# Altium schematic symbol library Schlib_LED2.SchLib: 1 symbol
Pins are listed as number, name and electrical type; pins without a type are passive.

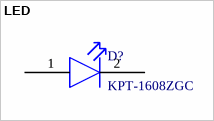
[diagram p0: symbol LED]

## LED
designator D?, comment KPT-1608ZGC
SMD LED Indication - Discrete ROHS /; manufacturer: Kingbright; ComponentLink1Description: datasheet; ComponentLink1URL: https://www.snapeda.com/parts/KPT-1608ZGC/Kingbright/datasheet/; ComponentLink2Description: snapeda link; ComponentLink2URL: https://www.snapeda.com/parts/KPT-1608ZGC/Kingbright/view-part/?welcome=home&ref=search&t=LED+SMD; ComponentLink3Description: LCSC link; ComponentLink3URL: https://www.lcsc.com/product-detail/LED-Indication-Discrete_Kingbright-KPT-1608ZGC_C598364.html; manufacturer part number: KPT-1608ZGC; supplier: LCSC; supplier part number: C598364
footprint PCBComponent_1
pins: 1, 2